# EAGLE library part TPS75003 (library IC)
TExas Instruments Triple-Supply Power Management IC for Powering FPGAs and DSPs
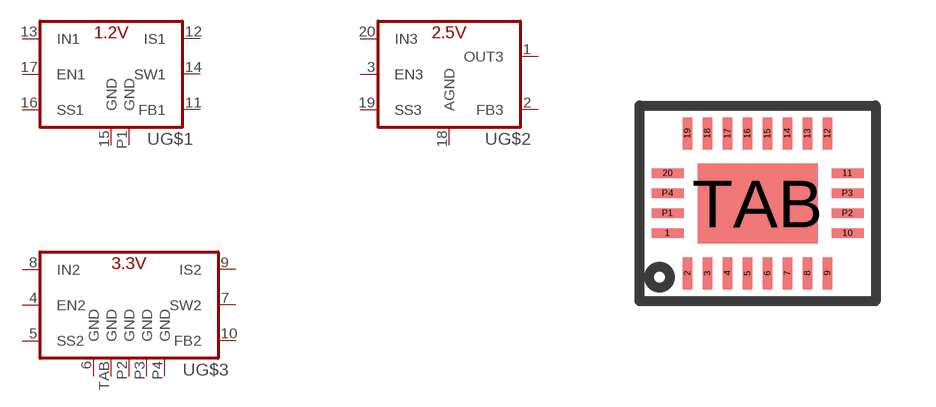
[diagram p173: symbol with the pads of PQFP-20; footprint PQFP-20]

Designator prefix -; gates G$1=TPS75003-12 G$2=TPS75003-25 G$3=TPS75003-33

## TPS75003  [PQFP-20]
1  G$2:OUT3  pwr
2  G$2:FB3  pwr
3  G$2:EN3
4  G$3:EN2
5  G$3:SS2
6  G$3:GND  pwr
7  G$3:SW2
8  G$3:IN2  pwr
9  G$3:IS2  pwr
10  G$3:FB2  pwr
11  G$1:FB1  pwr
12  G$1:IS1  pwr
13  G$1:IN1  pwr
14  G$1:SW1
15  G$1:GND  pwr
16  G$1:SS1
17  G$1:EN1
18  G$2:AGND  pwr
19  G$2:SS3
20  G$2:IN3  pwr
P1  G$1:GND  pwr
P2  G$3:GND  pwr
P3  G$3:GND  pwr
P4  G$3:GND  pwr
TAB  G$3:GND  pwr

## Footprint PQFP-20 (pad centres in mm)
QFN20 package (TI TPS75003)
smd 0.8 x 0.23: 1 -2.25,-0.75; 10 2.25,-0.75; 11 2.25,0.75; 20 -2.25,0.75; P1 -2.25,-0.25; P2 2.25,-0.25; P3 2.25,0.25; P4 -2.25,0.25
smd 0.23 x 0.8: 2 -1.75,-1.75; 3 -1.25,-1.75; 4 -0.75,-1.75; 5 -0.25,-1.75; 6 0.25,-1.75; 7 0.75,-1.75; 8 1.25,-1.75; 9 1.75,-1.75; 12 1.75,1.75; 13 1.25,1.75; 14 0.75,1.75; 15 0.25,1.75; 16 -0.25,1.75; 17 -0.75,1.75; 18 -1.25,1.75; 19 -1.75,1.75
smd 3 x 2: TAB 0,0